# Altium integrated library CAP.IntLib: 10 symbols
Pins are listed as number, name and electrical type; pins without a type are passive.

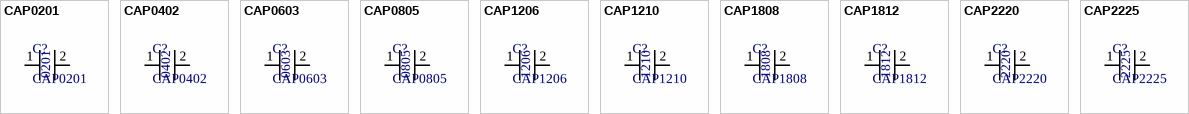
[diagram p0: symbols CAP0201 to CAP2225]

## CAP0201
designator C?
footprint CAP0201 (Chip Capacitor, 2-Leads, Body 0.6x0.3mm, IPC High Density)
pins: 1, 2
text: 0201

## CAP0402
designator C?
footprint CAP0402 (Chip Capacitor, 2-Leads, Body 1.0x0.5mm, IPC High Density)
pins: 1, 2
text: 0402

## CAP0603
designator C?
footprint CAP0603 (Chip Capacitor, 2-Leads, Body 1.6x0.8mm, IPC Medium Density)
pins: 1, 2
text: 0603

## CAP0805
designator C?
footprint CAP0805 (Chip Capacitor, 2-Leads, Body 2.0x1.3mm, IPC Medium Density)
pins: 1, 2
text: 0805

## CAP1206
designator C?
footprint CAP1206 (Chip Capacitor, 2-Leads, Body 3.2x1.6mm, IPC Medium Density)
pins: 1, 2
text: 1206

## CAP1210
designator C?
footprint CAP1210 (Chip Capacitor, 2-Leads, Body 3.2x2.5mm, IPC Medium Density)
pins: 1, 2
text: 1210

## CAP1808
designator C?
footprint CAP1808 (Chip Capacitor, 2-Leads, Body 4.5x2.0mm, IPC Medium Density)
pins: 1, 2
text: 1808

## CAP1812
designator C?
footprint CAP1812 (Chip Capacitor, 2-Leads, Body 4.5x3.2mm, IPC Medium Density)
pins: 1, 2
text: 1812

## CAP2220
designator C?
footprint CAP2220 (Chip Capacitor, 2-Leads, Body 5.7x5.0mm, IPC Medium Density)
pins: 1, 2
text: 2220

## CAP2225
designator C?
footprint CAP2225 (Chip Capacitor, 2-Leads, Body 5.7x6.4mm, IPC Medium Density)
pins: 1, 2
text: 2225